# EAGLE library part A3949 (library ANIMAlib)
A3949
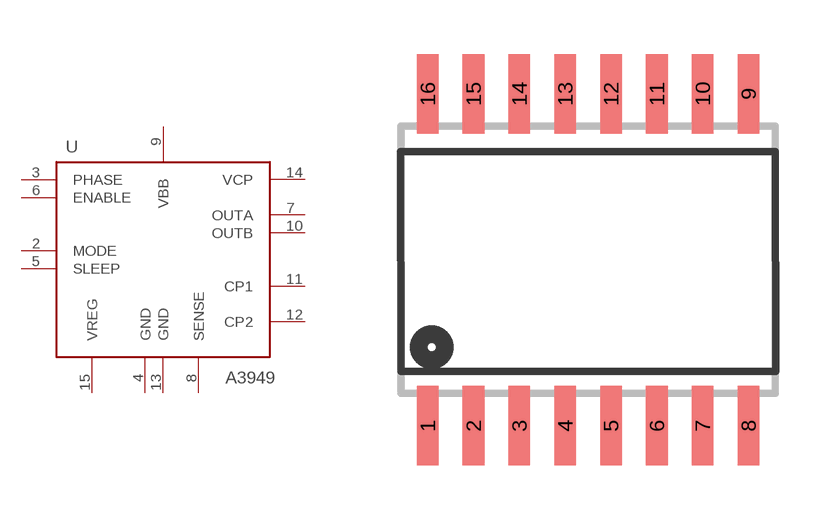
[diagram p0: symbol with the pads of SO-16DW; footprint SO-16DW]

Designator prefix U

## A3949SOIC-16W  [SO-16DW]
2  MODE  in
3  PHASE  in
4  GND
5  SLEEP  in
6  ENABLE  in
7  OUTA
8  SENSE
9  VBB  pwr
10  OUTB
11  CP1
12  CP2
13  GND
14  VCP
15  VREG

## Footprint SO-16DW (pad centres in mm)
Small Outline Integrated Circuit wide
smd 0.6 x 2.2: 1 -4.445,-4.6; 2 -3.175,-4.6; 3 -1.905,-4.6; 4 -0.635,-4.6; 5 0.635,-4.6; 6 1.905,-4.6; 7 3.175,-4.6; 8 4.445,-4.6; 9 4.445,4.6; 10 3.175,4.6; 11 1.905,4.6; 12 0.635,4.6; 13 -0.635,4.6; 14 -1.905,4.6; 15 -3.175,4.6; 16 -4.445,4.6